# EAGLE library part TC2030-IDC (library connector)
The TC2030-IDC is our "Legged" 6-pin Plug-of-Nailstm Cable fitted with a 6-pin 0.1" pitch ribbon connector.
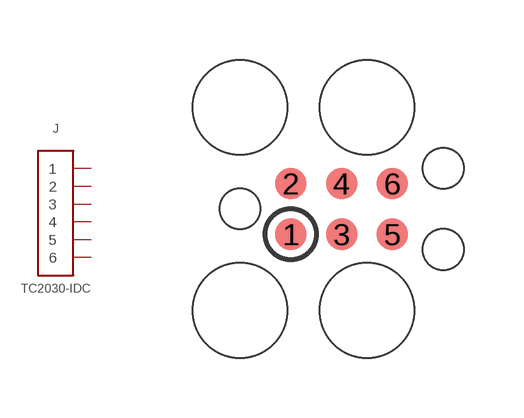
[diagram p1: symbol with the pads of TC2030-IDC; footprint TC2030-IDC]

Designator prefix J

## TC2030-IDC (TAGCONNECT: TC2030-IDC)  [TC2030-IDC]
1  1
2  2
3  3
4  4
5  5
6  6

## Footprint TC2030-IDC (pad centres in mm)
Tag Connect TC2030-IDC
smd 0.787 x 0.787: 1 -1.27,-0.635; 2 -1.27,0.635; 3 0,-0.635; 4 0,0.635; 5 1.27,-0.635; 6 1.27,0.635
hole 2.375 at -2.54,2.54
hole 2.375 at 0.635,2.54
hole 2.375 at 0.635,-2.54
hole 2.375 at -2.54,-2.54
hole 1.016 at -2.54,0
hole 1.016 at 2.54,1.016
hole 1.016 at 2.54,-1.016